# Altium footprint library SOT89.PcbLib: 1 footprints
Each footprint in its own frame and in the unit in brackets; x right, y up, seen from the top. Pads: shape width x height; smd on the part's side, far side on the other; paste and mask are expansions set on the pad; w line width, h text height; cw(c..) or ccw(c..) is an arc to the next point about the centre after c.
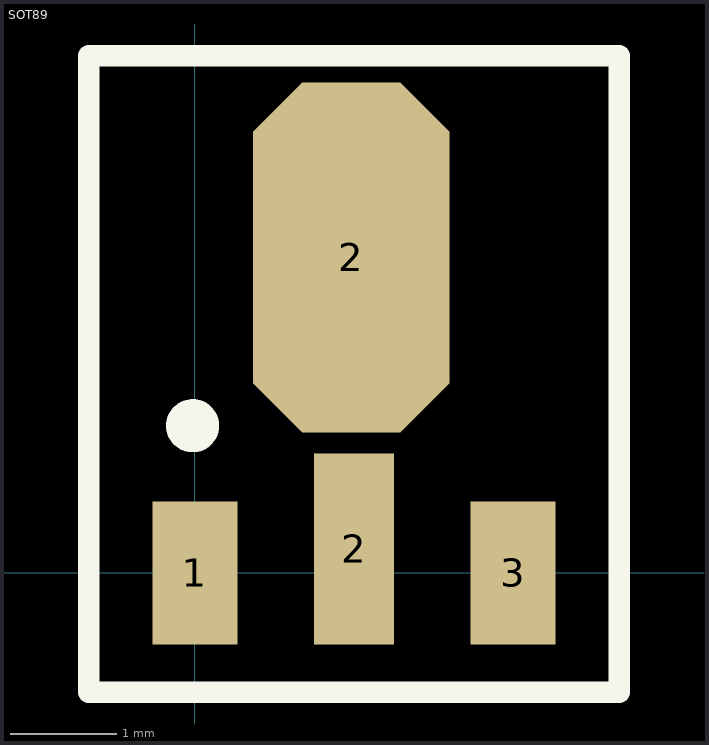
[diagram p0: the footprint, top view; thin cyan lines are the x and y axes]

## SOT89 [mm]
pads (4):
  rect 0.8x1.35 smd: 1(0,0) 3(3,0)
  oct 1.85x3.3 smd: 2(1.475,2.975)
  rect 0.75x1.8 smd: 2(1.5,0.225)
Top Overlay:
  circle w0.25: c-0.022,1.387 r0.125
  lines w0.2: -1,-1.125 -1,4.875 4,4.875 4,-1.125 -1,-1.125
3D body: height 1.59, standoff -0.02, extent -0.815,-0.358 3.785,3.892